# EAGLE library part UX60-MB-5S8 (library ux60-mb-5s8-oshpark_10)
MINI USB Connector HI-SPEED Certified Metal Shield Dip Type With Positioning Post Source: http://www.hirose.co.jp/cataloge_hp/e24000019.pdf
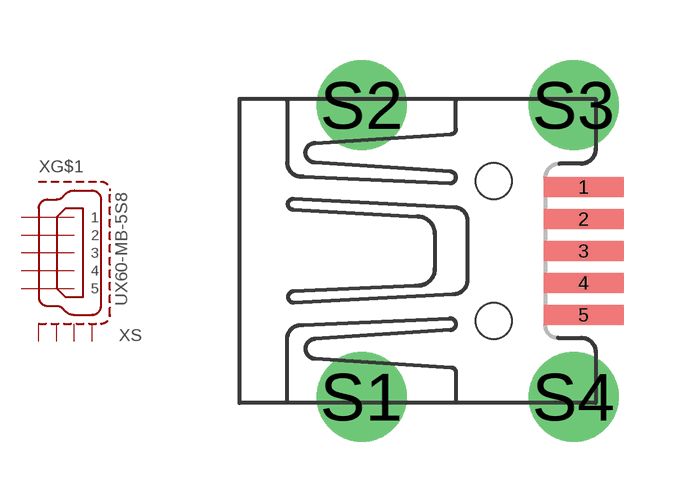
[diagram p0: symbol with the pads of UX60-MB-5S8; footprint UX60-MB-5S8]

Designator prefix X; gates G$1=MINI-USB S=MINI-USB-SHIELD

## UX60-MB-5S8 (MF: Hirose; MPN: UX60-MB-5S8; OC_FARNELL: unknown; OC_NEWARK: unknown)  [UX60-MB-5S8]
1  G$1:1  pas
2  G$1:2  pas
3  G$1:3  pas
4  G$1:4  pas
5  G$1:5  pas
S1  S:S1  pas
S2  S:S2  pas
S3  S:S3  pas
S4  S:S4  pas

## Footprint UX60-MB-5S8 (pad centres in mm)
MINI USB Connector HI-SPEED Certified Metal Shield Dip Type With Positioning Post Source: http://www.hirose.co.jp/cataloge_hp/e24000019.pdf
smd 2 x 0.5: 1 8.65,1.6; 2 8.65,0.8; 3 8.65,0; 4 8.65,-0.8; 5 8.65,-1.6
drill 1.5: S1 3.1,-3.65; S2 3.1,3.65; S3 8.4,3.65; S4 8.4,-3.65
hole 0.9 at 6.4,-1.75
hole 0.9 at 6.4,1.75